# EAGLE library part К161ЛП2 (library КР1534,К161,К120)
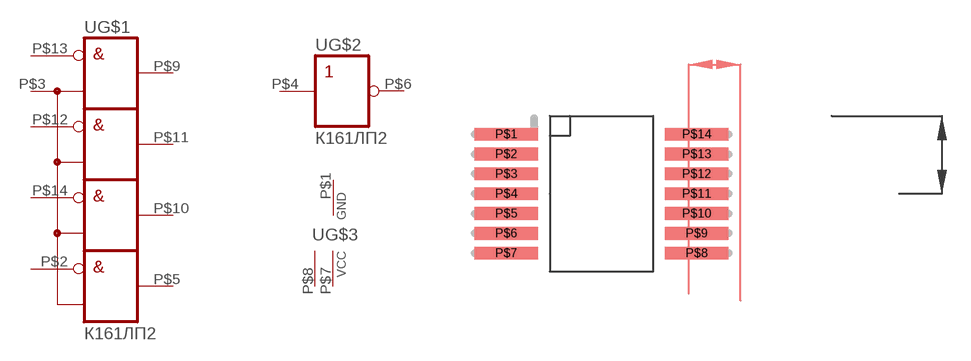
[diagram p8: symbol with the pads of 401.14-1; footprint 401.14-1]

Designator prefix -; gates G$1=161LP2 G$2=NOT G$3=PWR2

## К161ЛП2@120  [401.14-1]
P$1  G$3:GND  pwr
P$2  G$1:I3  in
P$3  G$1:I  in
P$4  G$2:I  in
P$5  G$1:O3  out
P$6  G$2:O  out
P$7  G$3:VCC  pwr
P$8  G$3:VCC  pwr
P$9  G$1:O0  out
P$10  G$1:O2  out
P$11  G$1:O1  out
P$12  G$1:I1  in
P$13  G$1:I0  in
P$14  G$1:I2  in

## Footprint 401.14-1 (pad centres in mm)
smd 4 x 0.8: P$1 -6,3.75; P$2 -6,2.5; P$3 -6,1.25; P$4 -6,0; P$5 -6,-1.25; P$6 -6,-2.5; P$7 -6,-3.75; P$8 6,-3.75; P$9 6,-2.5; P$10 6,-1.25; P$11 6,0; P$12 6,1.25; P$13 6,2.5; P$14 6,3.75